# Altium schematic symbol library QUTMS_SupersealPCB.SchLib: 2 symbols
Pins are listed as number, name and electrical type; pins without a type are passive.

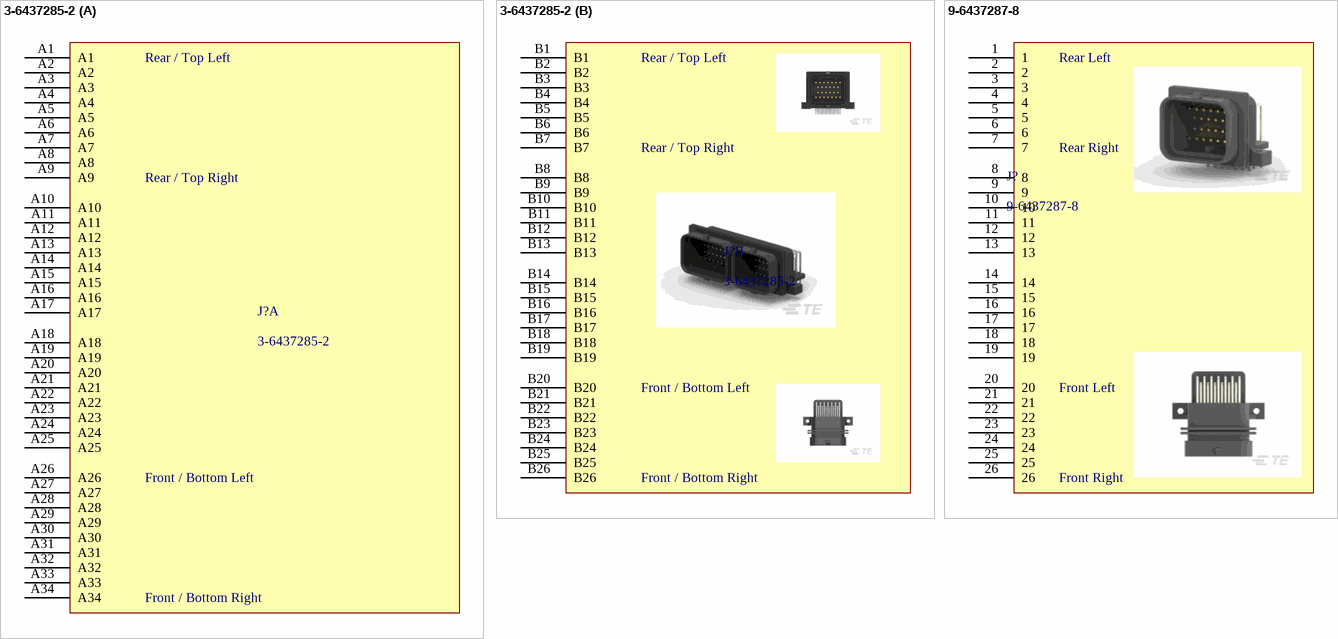
[diagram p0: symbols 3-6437285-2 to 9-6437287-8]

## 3-6437285-2
designator J?
Connector Header Through Hole, Right Angle 60 position 0.118" (3.00mm), 1.00mm contacts; ComponentLink1Description: Manufacturer; ComponentLink1URL: https://www.te.com/global-en/product-3-6437285-2.html
footprint SUPER SEAL RIGHT 60POS
part A pins: A1, A2, A3, A4, A5, A6, A7, A8, A9, A10, A11, A12, A13, A14, A15, A16, A17, A18, A19, A20, A21, A22, A23, A24, A25, A26, A27, A28, A29, A30, A31, A32, A33, A34
part B pins: B1, B2, B3, B4, B5, B6, B7, B8, B9, B10, B11, B12, B13, B14, B15, B16, B17, B18, B19, B20, B21, B22, B23, B24, B25, B26
part A text: Rear / Top Left; Rear / Top Right; Front / Bottom Left; Front / Bottom Right
part B text: Rear / Top Left; Rear / Top Right; Front / Bottom Left; Front / Bottom Right

## 9-6437287-8
designator J?
Connector Header Through Hole, Right Angle 26 position 0.118" (3.00mm)
footprint SUPERSEAL RIGHT 26WAY
pins: 1, 2, 3, 4, 5, 6, 7, 8, 9, 10, 11, 12, 13, 14, 15, 16, 17, 18, 19, 20, 21, 22, 23, 24, 25, 26
text: Rear Left; Rear Right; Front Left; Front Right